# Altium footprint library PCB - LEADED - SOT-23 - ANALOG SOT-23-8 RJ-8.PcbLib: 1 footprints
Each footprint in its own frame and in the unit in brackets; x right, y up, seen from the top. Pads: shape width x height; smd on the part's side, far side on the other; paste and mask are expansions set on the pad; w line width, h text height; cw(c..) or ccw(c..) is an arc to the next point about the centre after c.
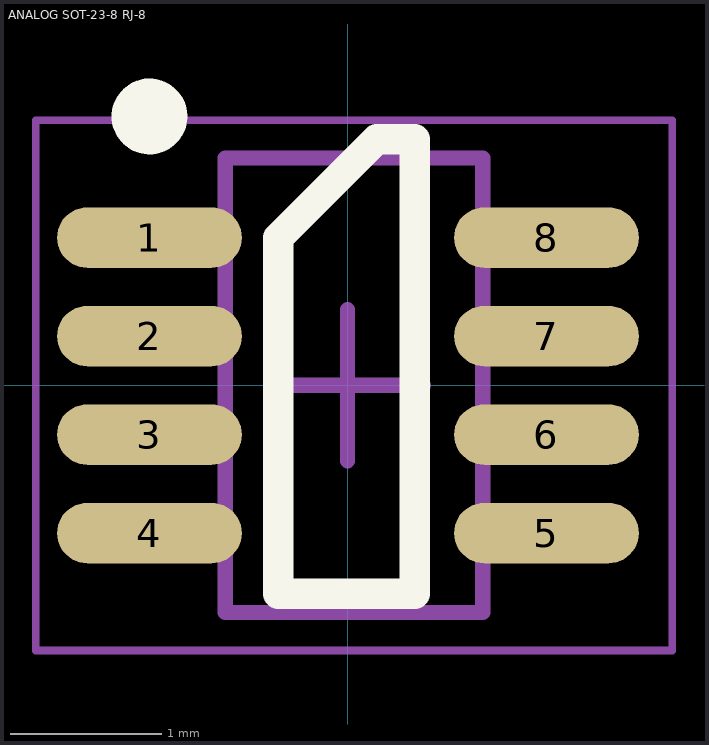
[diagram p0: the footprint, top view; thin cyan lines are the x and y axes]

## ANALOG SOT-23-8 RJ-8 [mm] "SOT-23-8, 8-Leads, Body 2.90x1.60mm, Pitch 0.65mm, IPC Medium Density"
height 1.45
pads (8):
  oval 1.22x0.4 smd: 1(-1.31,0.975) 2(-1.31,0.325) 3(-1.31,-0.325) 4(-1.31,-0.975) 5(1.31,-0.975) 6(1.31,-0.325) 7(1.31,0.325) 8(1.31,0.975)
Top Overlay:
  circle w0.25: c-1.31,1.775 r0.125
  lines w0.2: -0.46,-1.375 0.44,-1.375 0.44,1.625 0.19,1.625 -0.46,0.975 -0.46,-1.375
Top Component Center:
  lines w0.1: -0.502,0.001 0.498,0.001 ; -0.002,-0.499 -0.002,0.501
Top Courtyard:
  lines w0.05: -2.06,-1.75 2.14,-1.75 2.14,1.75 -2.06,1.75 -2.06,-1.75
Top Assembly:
  lines w0.1: -0.81,-1.5 -0.81,1.5 0.89,1.5 0.89,-1.5 -0.81,-1.5
3D body "ANALOG SOT-23-8 RJ-8.step": height 1.45, standoff 0, extent -1.4,-1.5 1.4,1.5